# Altium footprint library SM_VQFN-24.PcbLib: 1 footprints
Each footprint in its own frame and in the unit in brackets; x right, y up, seen from the top. Pads: shape width x height; smd on the part's side, far side on the other; paste and mask are expansions set on the pad; w line width, h text height; cw(c..) or ccw(c..) is an arc to the next point about the centre after c.
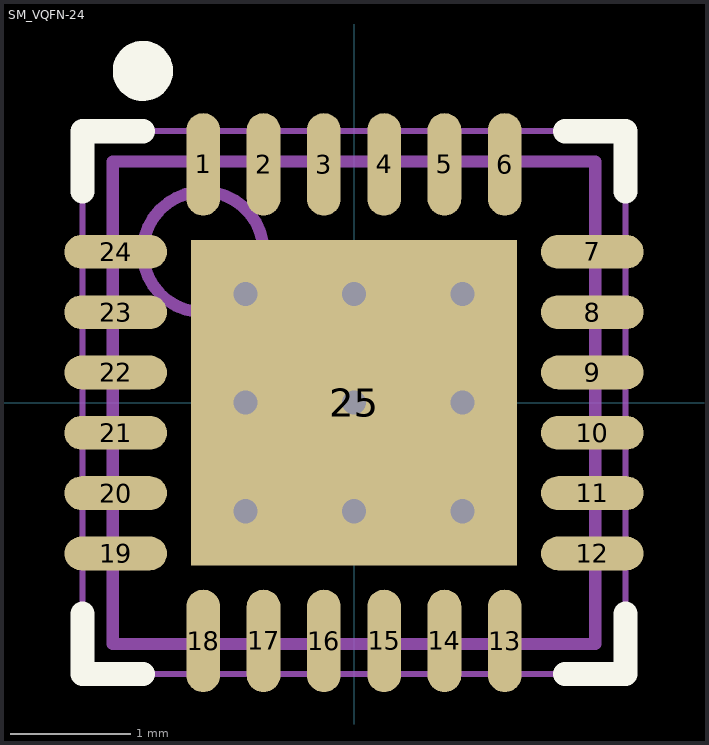
[diagram p0: the footprint, top view; thin cyan lines are the x and y axes]

## SM_VQFN-24 [mm] "PVQFN, 24-Leads, Body 4x4mm, Pitch 0.5mm, Thermal Pad 3.1x2.05mm, TI Recommended"
height 1
pads (25):
  oval 0.28x0.85 smd paste-0.025 mask+0.07: 1(-1.25,1.975) 2(-0.75,1.975) 3(-0.25,1.975) 4(0.25,1.975) 5(0.75,1.975) 6(1.25,1.975) 13(1.25,-1.975) 14(0.75,-1.975) 15(0.25,-1.975) 16(-0.25,-1.975) 17(-0.75,-1.975) 18(-1.25,-1.975)
  oval 0.85x0.28 smd paste-0.025 mask+0.07: 7(1.975,1.25) 8(1.975,0.75) 9(1.975,0.25) 10(1.975,-0.25) 11(1.975,-0.75) 12(1.975,-1.25) 19(-1.975,-1.25) 20(-1.975,-0.75) 21(-1.975,-0.25) 22(-1.975,0.25) 23(-1.975,0.75) 24(-1.975,1.25)
  rect 2.7x2.7 smd paste-999 mask+0.07: 25(0,0)
via 0.9,-0.9 diameter 0.5 hole 0.2
via 0.9,0 diameter 0.5 hole 0.2
via 0,-0.9 diameter 0.5 hole 0.2
via 0,0 diameter 0.5 hole 0.2
via 0,0.9 diameter 0.5 hole 0.2
via 0.9,0.9 diameter 0.5 hole 0.2
via -0.9,-0.9 diameter 0.5 hole 0.2
via -0.9,0 diameter 0.5 hole 0.2
via -0.9,0.9 diameter 0.5 hole 0.2
Top Overlay:
  circle w0.25: c-1.75,2.75 r0.125
  lines w0.2: -2.25,-1.75 -2.25,-2.25 -1.75,-2.25 ; -2.25,1.75 -2.25,2.25 -1.75,2.25 ; 1.75,-2.25 2.25,-2.25 2.25,-1.75 ; 1.75,2.25 2.25,2.25 2.25,1.75
Top Paste:
  region: 0.15,1.25 0.15,0.15 1.25,0.15 1.25,1.25
  rectangle: 0.125,-1.25 1.25,-0.125
  region: -0.15,-1.25 -0.15,-0.15 -1.25,-0.15 -1.25,-1.25
  region: -1.25,1.25 -1.25,0.15 -0.15,0.15 -0.15,1.25
Mechanical 13:
  circle w0.1: c-1.25,1.25 r0.5
  lines w0.1: -2,-2 2,-2 2,2 -2,2 -2,-2
Mechanical 15:
  lines w0.05: -2.25,-2.25 2.25,-2.25 2.25,2.25 -2.25,2.25 -2.25,-2.25
  lines w0.1: -0.5,0 0.5,0 ; 0,-0.5 0,0.5
3D body: height 1, standoff 0, extent -2,-2 2,2